# Altium integrated library bkirby.IntLib: 156 symbols
Pins are listed as number, name and electrical type; pins without a type are passive.

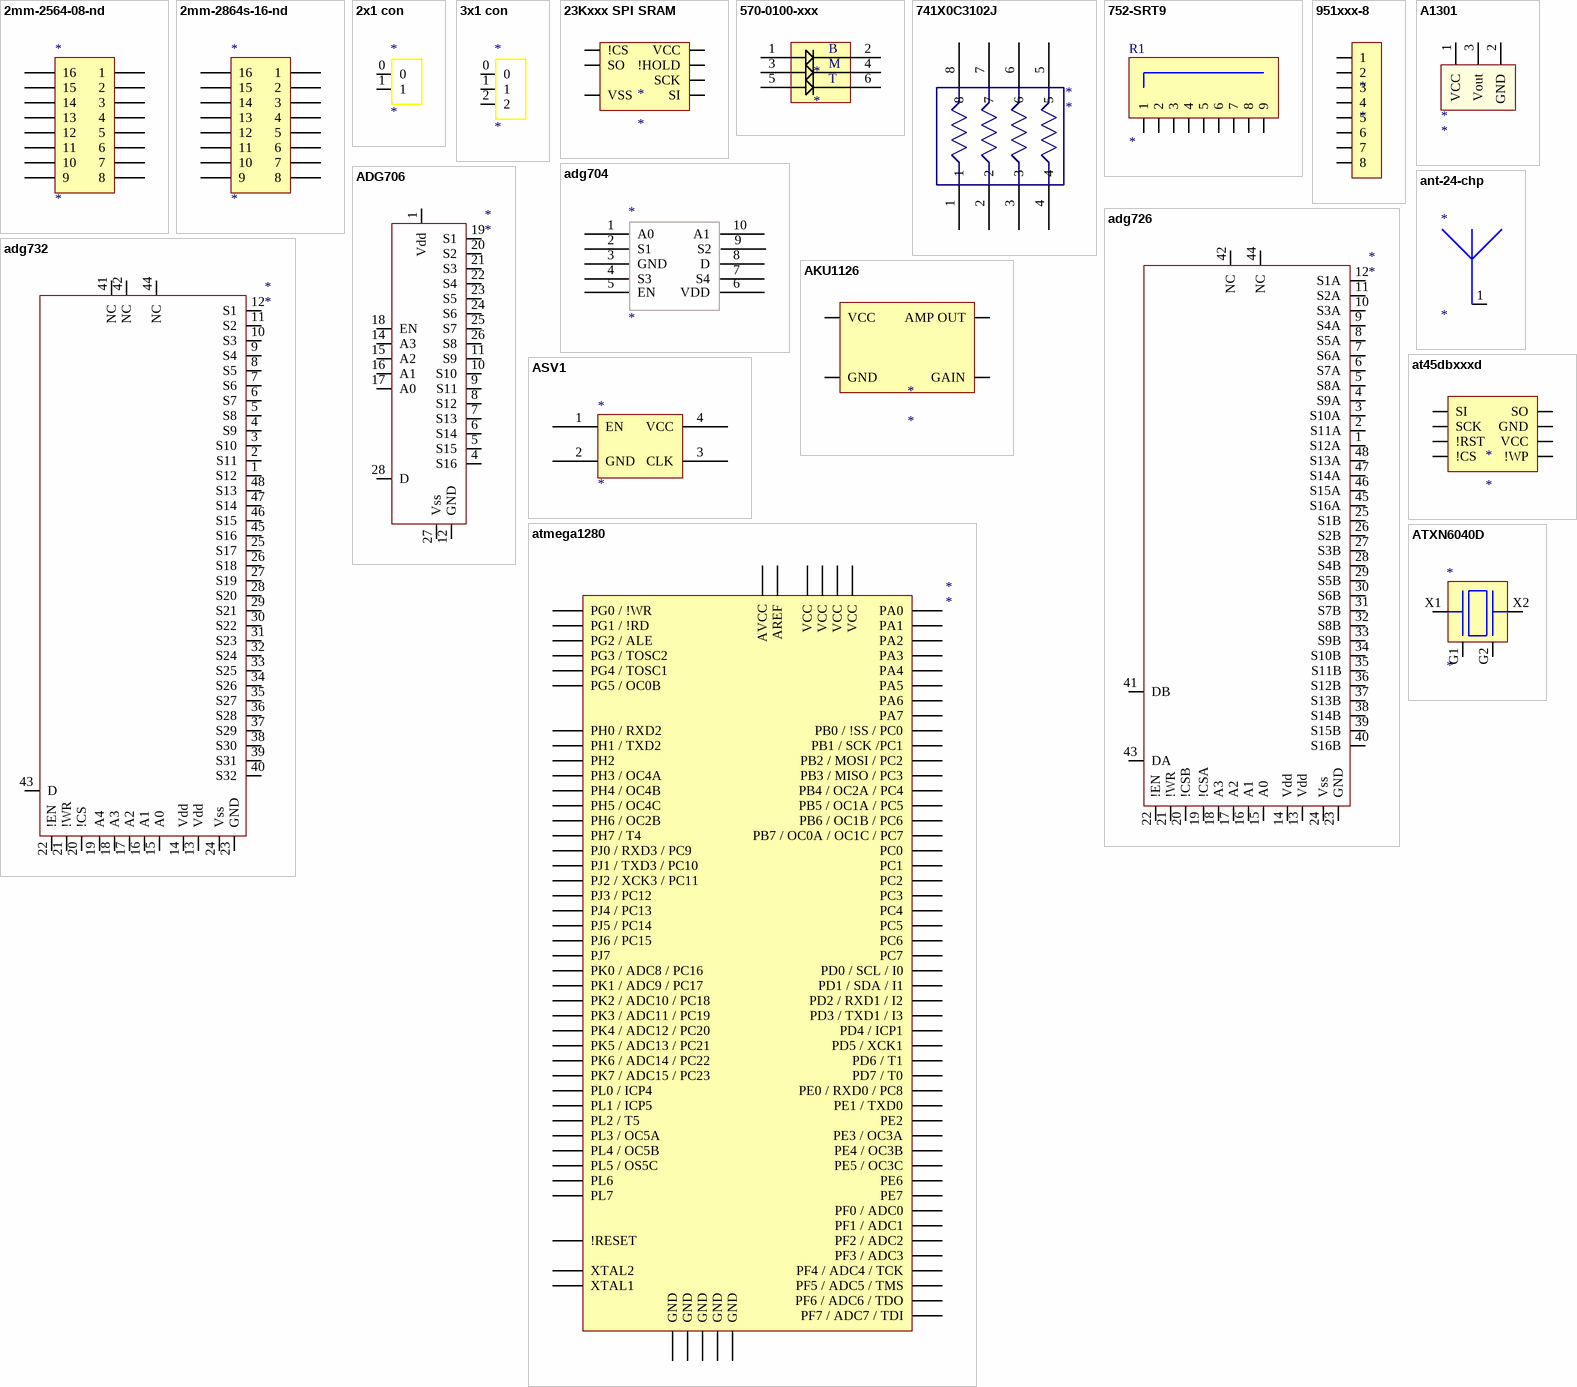
[diagram p0: symbols 2mm-2564-08-nd to ATXN6040D]

## 2mm-2564-08-nd
designator *
footprint 2mm-2564-08-nd
pins: 1, 2, 3, 4, 5, 6, 7, 8, 9, 10, 11, 12, 13, 14, 15, 16

## 2mm-2864s-16-nd
designator *
footprint 2mm-2864s-16-nd
pins: 1, 2, 3, 4, 5, 6, 7, 8, 9, 10, 11, 12, 13, 14, 15, 16

## 2x1 con
designator *
footprint 2x1header
pins: 0, 1

## 3x1 con
designator *
footprint 3x1header
pins: 0, 1, 2

## 23Kxxx SPI SRAM
designator *
footprint SO-G8/E4.1 (Small Outline; 8 Leads; Body Width 5.3 mm; Pitch 1.27 mm)
pins: 1 !CS, 2 SO, 4 VSS, 5 SI, 6 SCK, 7 !HOLD, 8 VCC

## 570-0100-xxx
designator *
footprint 570-0100-xxx (3 tier LED indicator)
pins: 1, 2, 3, 4, 5, 6
text: B; M; T

## 741X0C3102J
designator *
footprint 741C083102J
pins: 1, 2, 3, 4, 5, 6, 7, 8

## 752-SRT9
designator R1
footprint 752-SRT
pins: 1, 2, 3, 4, 5, 6, 7, 8, 9

## 951xxx-8
designator *
footprint 951xxx-8 (2mm R/A male header)
pins: 1, 2, 3, 4, 5, 6, 7, 8

## A1301
designator *
footprint A1301
pins: 1 VCC, 2 GND, 3 Vout

## adg704
designator *
footprint msop10
pins: 1 A0, 2 S1, 3 GND, 4 S3, 5 EN, 6 VDD, 7 S4, 8 D, 9 S2, 10 A1

## ADG706
designator *
footprint TSSO10x6-G28 (Shrink Small Outline; 28 Leads; Body Width 4.4 mm; Pitch 0.65 mm)
pins: 1 Vdd, 4 S16, 5 S15, 6 S14, 7 S13, 8 S12, 9 S11, 10 S10, 11 S9, 12 GND, 14 A3, 15 A2, 16 A1, 17 A0, 18 EN, 19 S1, 20 S2, 21 S3, 22 S4, 23 S5, 24 S6, 25 S7, 26 S8, 27 Vss, 28 D

## adg726
designator *
footprint F-QFP7x7-G48/X.3N (QFP; 48 Leads; Body 7 x 7 mm; Pitch 0.5 mm)
pins: 1 S12A, 2 S11A, 3 S10A, 4 S9A, 5 S8A, 6 S7A, 7 S6A, 8 S5A, 9 S4A, 10 S3A, 11 S2A, 12 S1A, 13 Vdd, 14 Vdd, 15 A0, 16 A1, 17 A2, 18 A3, 19 !CSA, 20 !CSB, 21 !WR, 22 !EN, 23 GND, 24 Vss, 25 S1B, 26 S2B, 27 S3B, 28 S4B, 29 S5B, 30 S6B, 31 S7B, 32 S8B, 33 S9B, 34 S10B, 35 S11B, 36 S12B, 37 S13B, 38 S14B, 39 S15B, 40 S16B, 41 DB, 42 NC, 43 DA, 44 NC, 45 S16A, 46 S15A, 47 S14A, 48 S13A

## adg732
designator *
footprint F-QFP7x7-G48/X.3N (QFP; 48 Leads; Body 7 x 7 mm; Pitch 0.5 mm)
pins: 1 S12, 2 S11, 3 S10, 4 S9, 5 S8, 6 S7, 7 S6, 8 S5, 9 S4, 10 S3, 11 S2, 12 S1, 13 Vdd, 14 Vdd, 15 A0, 16 A1, 17 A2, 18 A3, 19 A4, 20 !CS, 21 !WR, 22 !EN, 23 GND, 24 Vss, 25 S17, 26 S18, 27 S19, 28 S20, 29 S21, 30 S22, 31 S23, 32 S24, 33 S25, 34 S26, 35 S27, 36 S28, 37 S29, 38 S30, 39 S31, 40 S32, 41 NC, 42 NC, 43 D, 44 NC, 45 S16, 46 S15, 47 S14, 48 S13

## AKU1126
designator *
footprint aku1126
pins: 1 GAIN, 2 VCC, 3 GND, 4 AMP OUT

## ant-24-chp
designator *
footprint ant-24-chp
pins: 1 RF

## ASV1
designator *
footprint ASV1
pins: 1 EN, 2 GND, 3 CLK, 4 VCC

## at45dbxxxd
designator *
footprint SO-G8/E4.1 (Small Outline; 8 Leads; Body Width 5.3 mm; Pitch 1.27 mm)
pins: 1 SI, 2 SCK, 3 !RST, 4 !CS, 5 !WP, 6 VCC, 7 GND, 8 SO

## atmega1280
designator *
footprint F-QFP14x14-G100/X.3N (100-Pin Plastic Quad Flat Pack (TQFP))
pins: 1 PG5 / OC0B, 2 PE0 / RXD0 / PC8, 3 PE1 / TXD0, 4 PE2, 5 PE3 / OC3A, 6 PE4 / OC3B, 7 PE5 / OC3C, 8 PE6, 9 PE7, 10 VCC, 11 GND, 12 PH0 / RXD2, 13 PH1 / TXD2, 14 PH2, 15 PH3 / OC4A, 16 PH4 / OC4B, 17 PH5 / OC4C, 18 PH6 / OC2B, 19 PB0 / !SS / PC0, 20 PB1 / SCK /PC1, 21 PB2 / MOSI / PC2, 22 PB3 / MISO / PC3, 23 PB4 / OC2A / PC4, 24 PB5 / OC1A / PC5, 25 PB6 / OC1B / PC6, 26 PB7 / OC0A / OC1C / PC7, 27 PH7 / T4, 28 PG3 / TOSC2, 29 PG4 / TOSC1, 30 !RESET, 31 VCC, 32 GND, 33 XTAL2, 34 XTAL1, 35 PL0 / ICP4, 36 PL1 / ICP5, 37 PL2 / T5, 38 PL3 / OC5A, 39 PL4 / OC5B, 40 PL5 / OS5C, 41 PL6, 42 PL7, 43 PD0 / SCL / I0, 44 PD1 / SDA / I1, 45 PD2 / RXD1 / I2, 46 PD3 / TXD1 / I3, 47 PD4 / ICP1, 48 PD5 / XCK1, 49 PD6 / T1, 50 PD7 / T0, 51 PG0 / !WR, 52 PG1 / !RD, 53 PC0, 54 PC1, 55 PC2, 56 PC3, 57 PC4, 58 PC5, 59 PC6, 60 PC7, 61 VCC, 62 GND, 63 PJ0 / RXD3 / PC9, 64 PJ1 / TXD3 / PC10, 65 PJ2 / XCK3 / PC11, 66 PJ3 / PC12, 67 PJ4 / PC13, 68 PJ5 / PC14, 69 PJ6 / PC15, 70 PG2 / ALE, 71 PA7, 72 PA6, 73 PA5, 74 PA4, 75 PA3, 76 PA2, 77 PA1, 78 PA0, 79 PJ7, 80 VCC, 81 GND, 82 PK7 / ADC15 / PC23, 83 PK6 / ADC14 / PC22, 84 PK5 / ADC13 / PC21, 85 PK4 / ADC12 / PC20, 86 PK3 / ADC11 / PC19, 87 PK2 / ADC10 / PC18, 88 PK1 / ADC9 / PC17, 89 PK0 / ADC8 / PC16, 90 PF7 / ADC7 / TDI, 91 PF6 / ADC6 / TDO, 92 PF5 / ADC5 / TMS, 93 PF4 / ADC4 / TCK, 94 PF3 / ADC3, 95 PF2 / ADC2, 96 PF1 / ADC1, 97 PF0 / ADC0, 98 AREF, 99 GND, 100 AVCC

## ATXN6040D
designator *
footprint ATXN6040D
pins: G1, G2, X1, X2

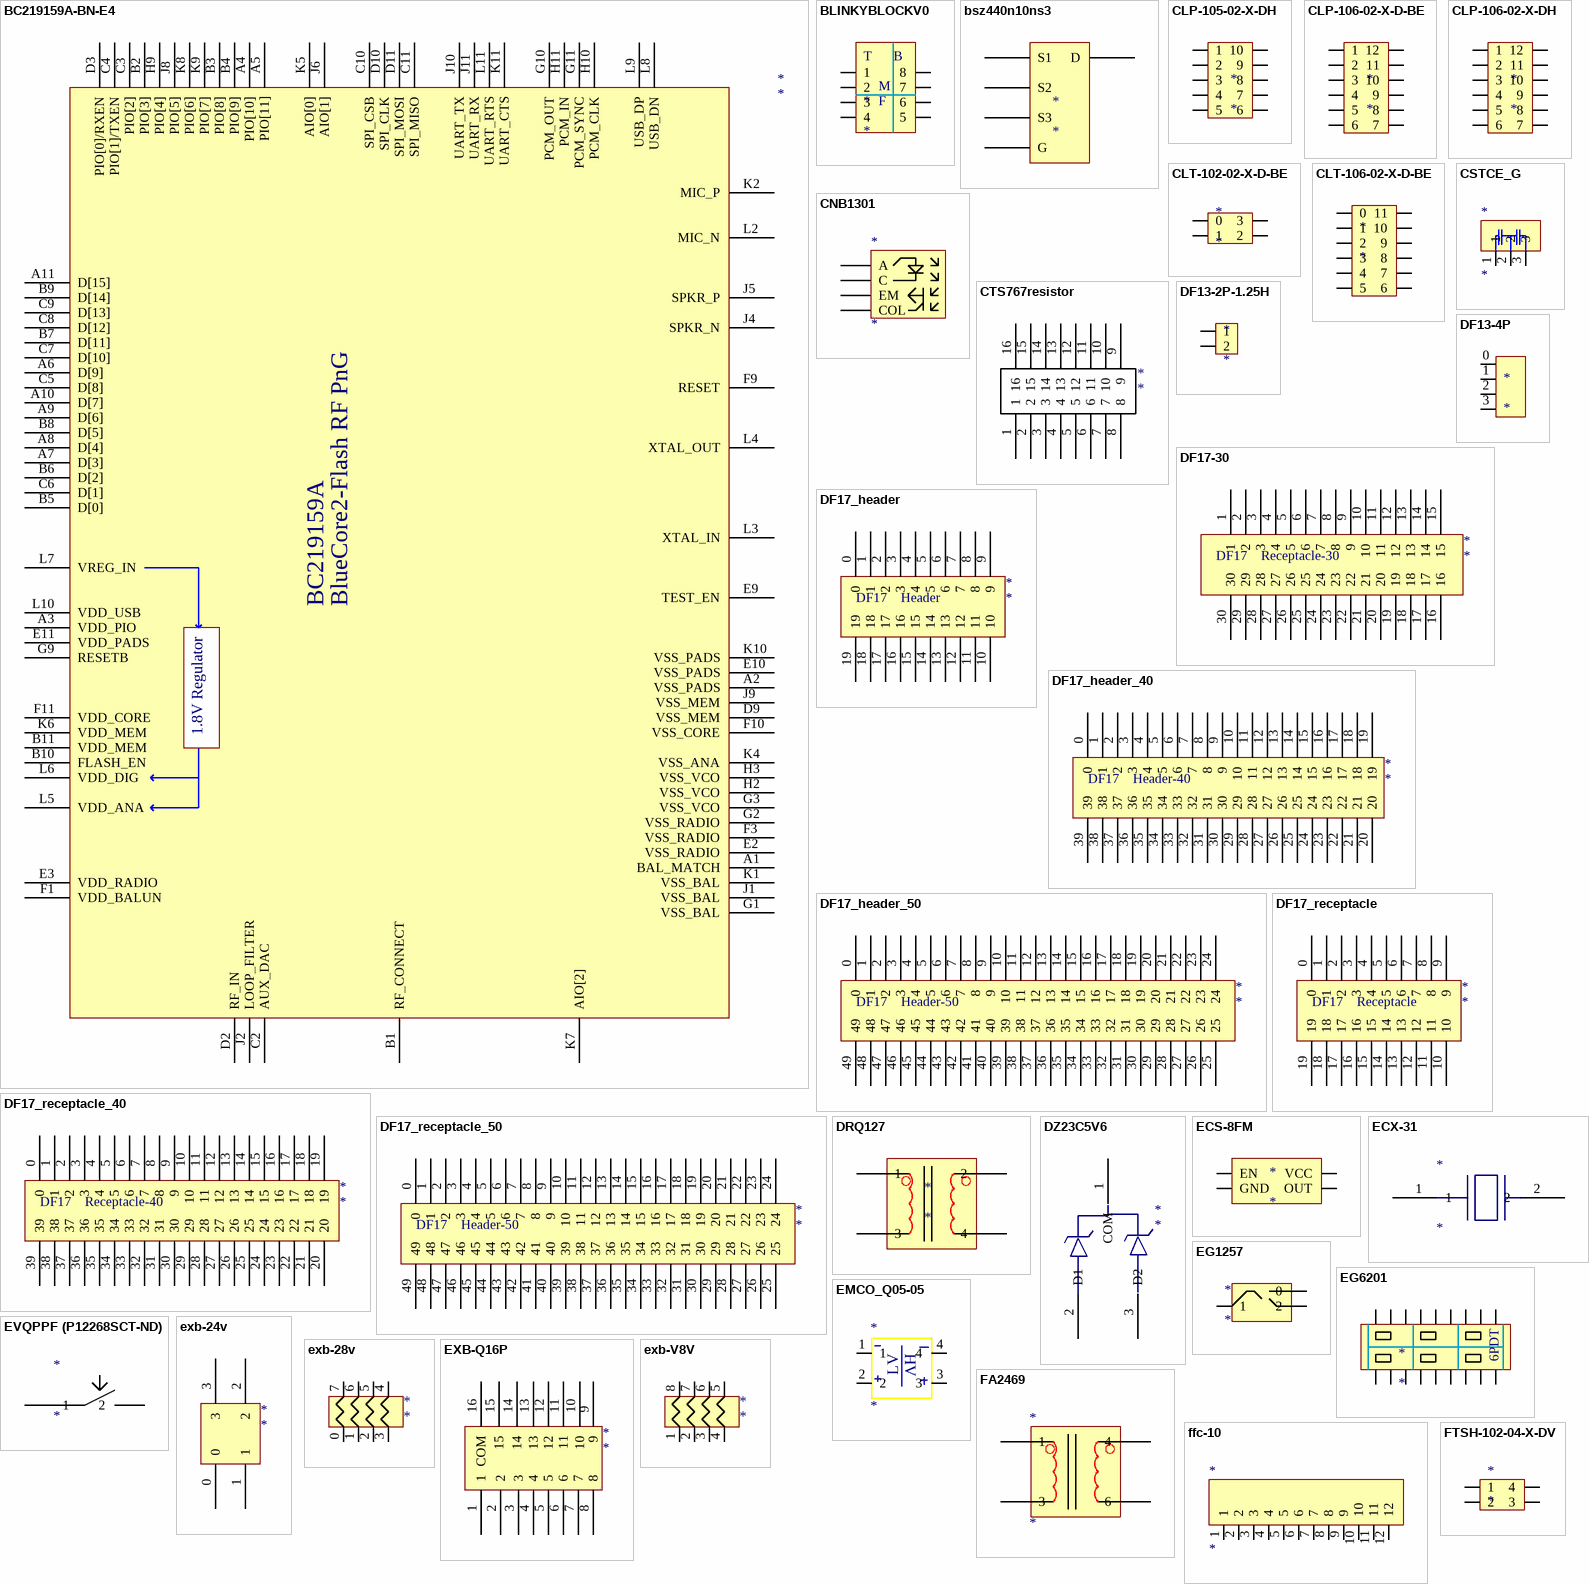
[diagram p1: symbols BC219159A-BN-E4 to FTSH-102-04-X-DV]

## BC219159A-BN-E4
designator *
footprint BGA96x11-DFM
pins: A1 BAL_MATCH, A2 VSS_PADS, A3 VDD_PIO, A4 PIO[10], A5 PIO[11], A6 D[9], A7 D[3], A8 D[4], A9 D[6], A10 D[7], A11 D[15], B1 RF_CONNECT, B2 PIO[3], B3 PIO[8], B4 PIO[9], B5 D[0], B6 D[2], B7 D[11], B8 D[5], B9 D[14], B10 FLASH_EN, B11 VDD_MEM, C2 AUX_DAC, C3 PIO[2], C4 PIO[1]/TXEN, C5 D[8], C6 D[1], C7 D[10], C8 D[12], C9 D[13], C10 SPI_CSB, C11 SPI_MISO, D2 RF_IN, D3 PIO[0]/RXEN, D9 VSS_MEM, D10 SPI_CLK, D11 SPI_MOSI, E2 VSS_RADIO, E3 VDD_RADIO, E9 TEST_EN, E10 VSS_PADS, E11 VDD_PADS, F1 VDD_BALUN, F3 VSS_RADIO, F9 RESET, F10 VSS_CORE, F11 VDD_CORE, G1 VSS_BAL, G2 VSS_RADIO, G3 VSS_VCO, G9 RESETB, G10 PCM_OUT, G11 PCM_SYNC, H2 VSS_VCO, H3 VSS_VCO, H9 PIO[4], H10 PCM_CLK, H11 PCM_IN, J1 VSS_BAL, J2 LOOP_FILTER, J4 SPKR_N, J5 SPKR_P, J6 AIO[1], J8 PIO[5], J9 VSS_MEM, J10 UART_TX, J11 UART_RX, K1 VSS_BAL, K2 MIC_P, K4 VSS_ANA, K5 AIO[0], K6 VDD_MEM, K7 AIO[2], K8 PIO[6], K9 PIO[7], K10 VSS_PADS, K11 UART_CTS, L2 MIC_N, L3 XTAL_IN, L4 XTAL_OUT, L5 VDD_ANA, L6 VDD_DIG, L7 VREG_IN, L8 USB_DN, L9 USB_DP, L10 VDD_USB, L11 UART_RTS
text: BC219159A; BlueCore2-Flash RF PnG; 1.8V Regulator

## BLINKYBLOCKV0
designator *
footprint BLINKYBLOCKV0
pins: 1, 2, 3, 4, 5, 6, 7, 8
text: T; B; M; F

## bsz440n10ns3
designator *
footprint BSZ440N10NS3
pins: DRAIN D, G, S1, S2, S3

## CLP-105-02-X-DH
designator *
footprint CLP-105-02-X-DH
pins: 1, 2, 3, 4, 5, 6, 7, 8, 9, 10

## CLP-106-02-X-D-BE
designator *
footprint CLP-106-02-X-D-BE
pins: 1, 2, 3, 4, 5, 6, 7, 8, 9, 10, 11, 12

## CLP-106-02-X-DH
designator *
footprint CLP-106-02-X-DH
pins: 1, 2, 3, 4, 5, 6, 7, 8, 9, 10, 11, 12

## CLT-102-02-X-D-BE
designator *
footprint CLT-102-02-X-D-BE
pins: 0, 1, 2, 3

## CLT-106-02-X-D-BE
designator *
footprint CLT-106-02-X-D-BE
pins: 0, 1, 2, 3, 4, 5, 6, 7, 8, 9, 10, 11

## CNB1301
designator *
footprint CNB1301
pins: 1 A, 2 C, 3 EM, 4 COL

## CSTCE_G
designator *
footprint CSTCE_G
pins: 1, 2, 3

## CTS767resistor
designator *
footprint CTS_767_resistor
pins: 1, 2, 3, 4, 5, 6, 7, 8, 9, 10, 11, 12, 13, 14, 15, 16

## DF13-2P-1.25H
designator *
footprint DF13-2P-1.25H(20)
pins: 1, 2

## DF13-4P
designator *
footprint DF13-4P
pins: 0, 1, 2, 3

## DF17-30
designator *
footprint DF17-30
pins: 1, 2, 3, 4, 5, 6, 7, 8, 9, 10, 11, 12, 13, 14, 15, 16, 17, 18, 19, 20, 21, 22, 23, 24, 25, 26, 27, 28, 29, 30
text: DF17; Receptacle-30

## DF17_header
designator *
footprint DF17_header
pins: 0, 1, 2, 3, 4, 5, 6, 7, 8, 9, 10, 11, 12, 13, 14, 15, 16, 17, 18, 19
text: DF17; Header

## DF17_header_40
designator *
footprint DF17_header-40
pins: 0, 1, 2, 3, 4, 5, 6, 7, 8, 9, 10, 11, 12, 13, 14, 15, 16, 17, 18, 19, 20, 21, 22, 23, 24, 25, 26, 27, 28, 29, 30, 31, 32, 33, 34, 35, 36, 37, 38, 39
text: DF17; Header-40

## DF17_header_50
designator *
footprint DF17_receptacle-50
pins: 0, 1, 2, 3, 4, 5, 6, 7, 8, 9, 10, 11, 12, 13, 14, 15, 16, 17, 18, 19, 20, 21, 22, 23, 24, 25, 26, 27, 28, 29, 30, 31, 32, 33, 34, 35, 36, 37, 38, 39, 40, 41, 42, 43, 44, 45, 46, 47, 48, 49
text: DF17; Header-50

## DF17_receptacle
designator *
footprint DF17_receptacle
pins: 0, 1, 2, 3, 4, 5, 6, 7, 8, 9, 10, 11, 12, 13, 14, 15, 16, 17, 18, 19
text: DF17; Receptacle

## DF17_receptacle_40
designator *
footprint DF17_receptacle-40
pins: 0, 1, 2, 3, 4, 5, 6, 7, 8, 9, 10, 11, 12, 13, 14, 15, 16, 17, 18, 19, 20, 21, 22, 23, 24, 25, 26, 27, 28, 29, 30, 31, 32, 33, 34, 35, 36, 37, 38, 39
text: DF17; Receptacle-40

## DF17_receptacle_50
designator *
footprint DF17_receptacle-50
pins: 0, 1, 2, 3, 4, 5, 6, 7, 8, 9, 10, 11, 12, 13, 14, 15, 16, 17, 18, 19, 20, 21, 22, 23, 24, 25, 26, 27, 28, 29, 30, 31, 32, 33, 34, 35, 36, 37, 38, 39, 40, 41, 42, 43, 44, 45, 46, 47, 48, 49
text: DF17; Header-50

## DRQ127
designator *
footprint DRQ127 (coupled inductor)
pins: 1, 2, 3, 4

## DZ23C5V6
designator *
footprint SO-G3/D4.1 (SOT-23; 3 Leads; Body 3.0 x 2.5 mm, inc. leads (LxW max), Alternate Lead Configuration)
pins: 1 COM, 2 D1, 3 D2

## ECS-8FM
designator *
footprint ECS-8F
pins: 1 EN, 2 GND, 3 OUT, 4 VCC

## ECX-31
designator *
footprint ECX-31
pins: 1, 2

## EG1257
designator *
footprint EG1257
pins: 0, 1, 2

## EG6201
designator *
footprint EG6201
pins: 1, 2, 3, 4, 5, 6, 7, 8, 9, 10, 11, 12, 13, 14, 15, 16, 17, 18
text: 6PDT

## EMCO_Q05-05
designator *
footprint EMCO_HV
pins: 1, 2, 3, 4
text: HV; LV

## EVQPPF (P12268SCT-ND)
designator *
footprint EVQPPF
pins: 1, 2

## exb-24v
designator *
footprint exb-24v
pins: 0, 1, 2, 3

## exb-28v
designator *
footprint exb-28v
pins: 0, 1, 2, 3, 4, 5, 6, 7

## EXB-Q16P
designator *
footprint EXB-Q16P
pins: 1, 2, 3, 4, 5, 6, 7, 8, 9, 10, 11, 12, 13, 14, 15, 16 COM

## exb-V8V
designator *
footprint EXB-V8V
pins: 1, 2, 3, 4, 5, 6, 7, 8

## FA2469
designator *
footprint FA2469
pins: 1, 3, 4, 6

## ffc-10
designator *
footprint FFC-10
pins: 1, 2, 3, 4, 5, 6, 7, 8, 9, 10, 11, 12

## FTSH-102-04-X-DV
designator *
footprint FTSH-102-04-X-DV
pins: 1, 2, 3, 4

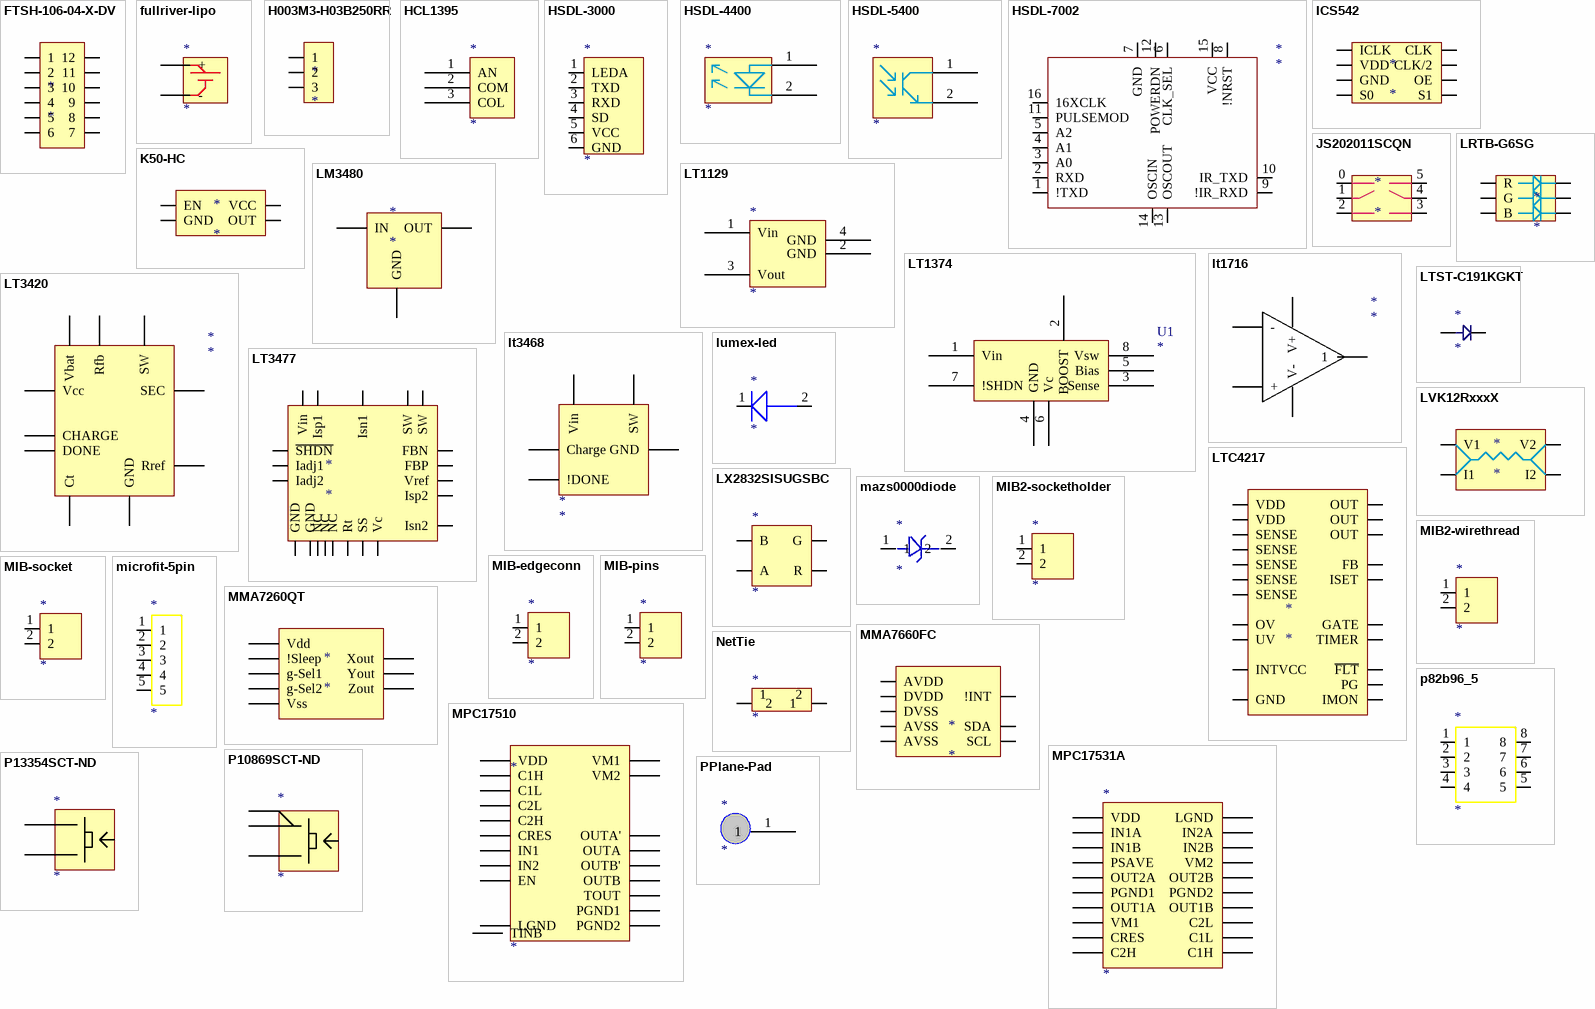
[diagram p2: symbols FTSH-106-04-X-DV to PPlane-Pad]

## FTSH-106-04-X-DV
designator *
footprint FTSH-106-04-X-DV
pins: 1, 2, 3, 4, 5, 6, 7, 8, 9, 10, 11, 12

## fullriver-lipo
designator *
footprint fullriver-lipo
pins: 1 -, 2 +

## H003M3-H03B250RR
designator *
footprint H003M3-H03B250RR
pins: 1, 2, 3

## HCL1395
designator *
footprint A1301
pins: 1 AN, 2 COM, 3 COL

## HSDL-3000
designator *
footprint HSDL-3000
pins: 1 LEDA, 2 TXD, 3 RXD, 4 SD, 5 VCC, 6 GND

## HSDL-4400
designator *
footprint HSDL-4400
pins: 1 ANODE, 2 CATHODE

## HSDL-5400
designator *
footprint HSDL-5400
pins: 1, 2

## HSDL-7002
designator *
footprint QFN4X4-16 (Quad Flat No Lead, Plastic; 16 Terminals; Body 4 x 4 mm; Pitch 0.65 mm)
pins: 1 !TXD, 2 RXD, 3 A0, 4 A1, 5 A2, 6 CLK_SEL, 7 GND, 8 !NRST, 9 !IR_RXD, 10 IR_TXD, 11 PULSEMOD, 12 POWERDN, 13 OSCOUT, 14 OSCIN, 15 VCC, 16 16XCLK

## ICS542
designator *
footprint SO-G8 (Small Outline; 8 Leads; Body Width 3.9 mm; Pitch 1.27 mm)
pins: 1 ICLK, 2 VDD, 3 GND, 4 S0, 5 S1, 6 OE, 7 CLK/2, 8 CLK

## JS202011SCQN
designator *
footprint JS202011SCQN
pins: 0, 1, 2, 3, 4, 5

## K50-HC
designator *
footprint K50-HC
pins: 1 EN, 2 GND, 3 OUT, 4 VCC

## LM3480
designator *
footprint SO-G3/C2.25 (SOT-23; 3 Leads; Body 3.0 x 2.5 mm, inc. leads (LxW max))
pins: 1 OUT, 2 IN, 3 GND

## LRTB-G6SG
designator *
footprint LRTB-G6SG
pins: A1 R, A2 G, A3 B, C1, C2, C3

## LT1129
designator *
footprint SOT223-4L (SOT223/SC73, 4-Leads, Body 6.5x3.5mm, Pitch 2.3mm, Lead Span 7mm, IPC High Density)
pins: 1 Vin, 2 GND, 3 Vout, 4 GND

## LT1374
designator U1
footprint SOP8
pins: 1 Vin, 2 BOOST, 3 Sense, 4 GND, 5 Bias, 6 Vc, 7 !SHDN, 8 Vsw

## lt1716
designator *
footprint SO-G5/P.95 (SOT-23/SC-74A; 5 Leads; Body 3.1 x 3 mm, inc. leads (LxW max))
pins: 1, 2 V-, 3 +, 4 -, 5 V+

## LT3420
designator *
footprint msop10
pins: 1 Rref, 2 Vbat, 3 Rfb, 4 Vcc, 5 GND, 6 SW, 7 SEC, 8 DONE, 9 CHARGE, 10 Ct

## lt3468
designator *
footprint SO-G5/P.95 (SOT-23/SC-74A; 5 Leads; Body 3.1 x 3 mm, inc. leads (LxW max))
pins: 1 SW, 2 GND, 3 !DONE, 4 Charge, 5 Vin

## LT3477
designator *
footprint QFN20
pins: 1 NC, 2 NC, 3 Vin, 4 Rt, 5 ~{SHDN}, 6 SS, 7 Vc, 8 FBN, 9 FBP, 10 Vref, 11 Iadj2, 12 Iadj1, 13 Isp2, 14 Isn2, 15 Isp1, 16 Isn1, 17 GND, 18 SW, 19 SW, 20 NC, 21 GND

## LTC4217
designator *
footprint LTC4217
pins: 1 SENSE, 2 VDD, 3 UV, 4 OV, 5 TIMER, 6 INTVCC, 7 GND, 8 OUT, 9 OUT, 10 SENSE, 11 SENSE, 12 OUT, 13 GATE, 14 PG, 15 ~{FLT}, 16 FB, 17 IMON, 18 ISET, 19 VDD, 20 SENSE, PAD SENSE

## LTST-C191KGKT
designator *
footprint LTST-C191KGKT
pins: 1, 2

## lumex-led
designator *
pins: 1, 2

## LVK12RxxxX
designator *
footprint LVK12RxxxX (kelven sense resistor 1206 WIDE)
pins: I1, I2, V1, V2

## LX2832SISUGSBC
designator *
footprint LX2832SISUGSBC
pins: 1 R, 2 A, 3 B, 4 G

## mazs0000diode
designator *
footprint SS-mini 2p
pins: 1, 2

## MIB2-socketholder
designator *
footprint MD-MIB2-socketholder
pins: 1, 2

## MIB2-wirethread
designator *
footprint MD-MIB2-wirethread
pins: 1, 2

## MIB-edgeconn
designator *
footprint 2mm-RA
pins: 1, 2

## MIB-pins
designator *
footprint MD-MIB-PIN
pins: 1, 2

## MIB-socket
designator *
footprint MD-MIB-socket
pins: 1, 2

## microfit-5pin
designator *
footprint microfit-5RA (right angle with retention)
pins: 1, 2, 3, 4, 5

## MMA7260QT
designator *
footprint MMA7260QT
pins: 1 g-Sel1, 2 g-Sel2, 3 Vdd, 4 Vss, 12 !Sleep, 13 Zout, 14 Yout, 15 Xout

## MMA7660FC
designator *
footprint QFN50P300X300X100-10N (QFN, 10-Leads, Body 3.0x3.0mm (max), Pitch 0.50mm, IPC Medium Density)
pins: 1 AVSS, 3 AVDD, 4 AVSS, 5 !INT, 6 SCL, 7 SDA, 8 DVSS, 9 DVDD

## MPC17510
designator *
footprint MPC17510
pins: 1 OUTA, 2 LGND, 3 CRES, 5 OUTA', 6 PGND1, 8 VM2, 9 IN1, 10 IN2, 11 C1H, 12 C1L, 13 C2L, 14 C2H, 15 TOUT, 16 EN, 17 OUTB', 18 OUTB, 19 PGND2, 21 VM1, 23 VDD, 24 TINB

## MPC17531A
designator *
footprint MPC17531A
pins: 1 VDD, 2 IN1A, 3 IN1B, 4 PSAVE, 5 OUT2A, 6 PGND1, 7 OUT1A, 8 VM1, 9 CRES, 10 C2H, 11 C1H, 12 C1L, 13 C2L, 14 OUT1B, 15 PGND2, 16 OUT2B, 17 VM2, 18 IN2B, 19 IN2A, 20 LGND

## NetTie
designator *  (net tie, no BOM)
footprint NetTie
pins: 1, 2

## p82b96_5
designator *
footprint SOP8
pins: 1, 2, 3, 4, 5, 6, 7, 8

## P10869SCT-ND
designator *
footprint P10869SCT-ND
pins: 1, C1 COM, C2 COM

## P13354SCT-ND
designator *
footprint p11151sct-nd
pins: C COM, D

## PPlane-Pad
designator *
footprint PPlane-Pad
pins: 1

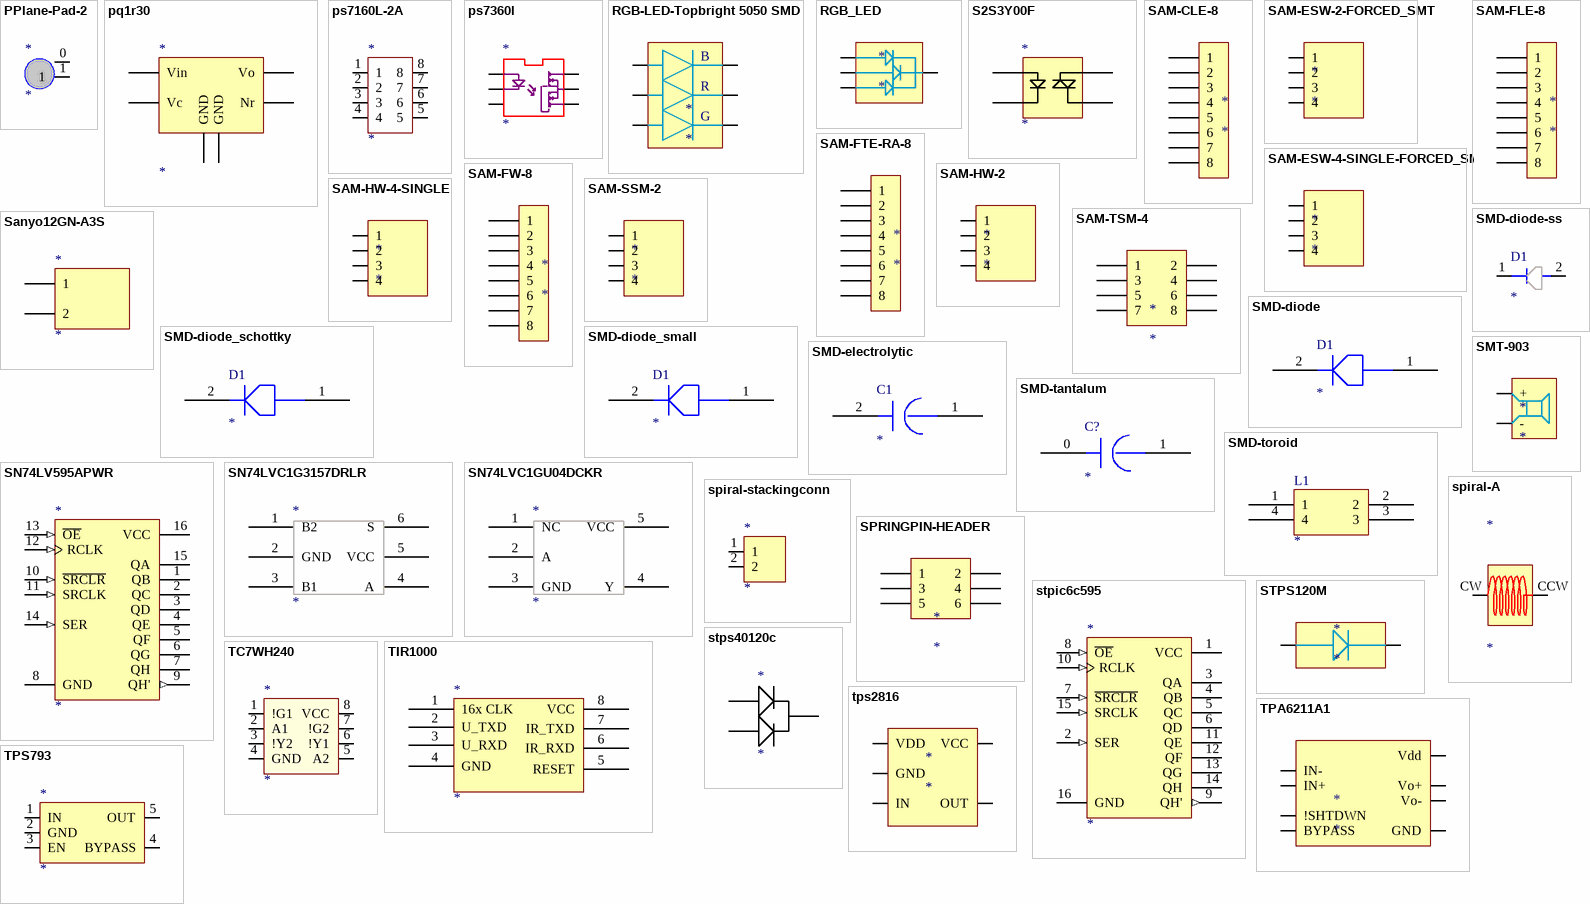
[diagram p3: symbols PPlane-Pad-2 to tps2816]

## PPlane-Pad-2
designator *
footprint PPlane-Pad
pins: 0, 1

## pq1r30
designator *
footprint SO-G6/E2.4 (Small Outline; 6 Leads; Body 3.6 x 3.6 mm, inc. leads (LxW max))
pins: 1 Vc, 2 GND, 3 Nr, 4 Vo, 5 GND, 6 Vin

## ps7160L-2A
designator *
footprint DIP-8 (DIP; 8 Leads; Row Spacing 7.62 mm; Pitch 2.54 mm)
pins: 1, 2, 3, 4, 5, 6, 7, 8

## ps7360l
designator *
footprint Dip-SOIC6
pins: 1, 2, 3, 4, 5, 6

## RGB-LED-Topbright 5050 SMD
designator *
footprint PLCC-6
pins: 1, 2, 3, 4, 5, 6
text: B; R; G

## RGB_LED
designator *
footprint RGB_LED
pins: 1, 2, 3, 4

## S2S3Y00F
designator *
footprint S2S3Y00F
pins: 1 A, 2 K, 3 MT1, 4 MT2

## SAM-CLE-8
designator *
footprint SAM-CLE-8
pins: 1, 2, 3, 4, 5, 6, 7, 8

## SAM-ESW-2-FORCED_SMT
designator *
footprint SAM-ESW-2-FORCED_SMT
pins: 1, 2, 3, 4

## SAM-ESW-4-SINGLE-FORCED_SMT
designator *
footprint SAM-ESW-4-SINGLE-FORCED_SMT
pins: 1, 2, 3, 4

## SAM-FLE-8
designator *
footprint SAM-FLE-8
pins: 1, 2, 3, 4, 5, 6, 7, 8

## SAM-FTE-RA-8
designator *
footprint SAM-FTE-RA-8
pins: 1, 2, 3, 4, 5, 6, 7, 8

## SAM-FW-8
designator *
footprint SAM-FW-8
pins: 1, 2, 3, 4, 5, 6, 7, 8

## SAM-HW-2
designator *
footprint SAM-HW-2
pins: 1, 2, 3, 4

## SAM-HW-4-SINGLE
designator *
footprint SAM-HW-4-Single
pins: 1, 2, 3, 4

## SAM-SSM-2
designator *
footprint SAM-SSM-2
pins: 1, 2, 3, 4

## SAM-TSM-4
designator *
footprint SAM-TSM-4
pins: 1, 2, 3, 4, 5, 6, 7, 8

## Sanyo12GN-A3S
designator *
footprint Sanyo12GN-A3S
pins: 1, 2

## SMD-diode
designator D1
footprint SMD-Diode
pins: 1, 2

## SMD-diode-ss
designator D1
footprint DSO-F2/D4.4 (SMT LED; 2 Flat Leads)
pins: 1, 2

## SMD-diode_schottky
designator D1
footprint SMA
pins: 1, 2

## SMD-diode_small
designator D1
footprint SMB
pins: 1, 2

## SMD-electrolytic
designator C1
footprint SMD-electrolytic
pins: 1, 2

## SMD-tantalum
designator C?
footprint SMD-tantalum
pins: 0, 1

## SMD-toroid
designator L1
footprint SMD-Toroid
pins: 1, 2, 3, 4

## SMT-903
designator *
footprint SMT-903
pins: 1 +, 2 -

## SN74LV595APWR
designator *
footprint TSSO5x6-G16 (Shrink Small Outline; 16 Leads; Body Width 4.4 mm; Pitch 0.65 mm)
pins: 1 QB (hiz), 2 QC (hiz), 3 QD (hiz), 4 QE (hiz), 5 QF (hiz), 6 QG (hiz), 7 QH (hiz), 8 GND (power), 9 QH' (out), 10 ~{SRCLR} (in), 11 SRCLK (in), 12 RCLK (in), 13 ~{OE} (in), 14 SER (in), 15 QA (hiz), 16 VCC (power)

## SN74LVC1G3157DRLR
designator *
footprint R-PDSO-N6
pins: 1 B2, 2 GND, 3 B1, 4 A, 5 VCC, 6 S

## SN74LVC1GU04DCKR
designator *
footprint SO-G5/P.65 (SOT-353/SC-88A; 5 Leads; Body 2.1 x 2.4 mm, inc. leads (LxW max))
pins: 1 NC, 2 A, 3 GND, 4 Y, 5 VCC

## spiral-A
designator *
footprint spiral_A6layer
pins: CCW, CW

## spiral-stackingconn
designator *
footprint spiral-stackingconn
pins: 1, 2

## SPRINGPIN-HEADER
designator *
footprint SPRINGPIN-ISP
pins: 1, 2, 3, 4, 5, 6

## stpic6c595
designator *
footprint TSSO5x6-G16 (Shrink Small Outline; 16 Leads; Body Width 4.4 mm; Pitch 0.65 mm)
pins: 1 VCC (power), 2 SER (in), 3 QA (hiz), 4 QB (hiz), 5 QC (hiz), 6 QD (hiz), 7 ~{SRCLR} (in), 8 ~{OE} (in), 9 QH' (out), 10 RCLK (in), 11 QE (hiz), 12 QF (hiz), 13 QG (hiz), 14 QH (hiz), 15 SRCLK (in), 16 GND (power)

## STPS120M
designator *
footprint DO216-AA
pins: 1 C, 2 A

## stps40120c
designator *
footprint SIP-P3/E10.4 (SIP; 3 Leads; Body 16 x 10.2 x 4.5 mm (typ); Pitch 2.54 mm)
pins: 1 A1, 2 K, 3 A2

## TC7WH240
designator *
footprint SSOP8
pins: 1 !G1, 2 A1, 3 !Y2, 4 GND, 5 A2, 6 !Y1, 7 !G2, 8 VCC

## TIR1000
designator *
footprint TSSO3x6-G8/Z7.1 (Shrink Small Outline; 8 Leads; Body Width 4.4 mm; Pitch 0.65 mm)
pins: 1 16x CLK, 2 U_TXD, 3 U_RXD, 4 GND, 5 RESET, 6 IR_RXD, 7 IR_TXD, 8 VCC

## TPA6211A1
designator *
footprint TPA6211A1 (QFN, 12-Leads, Body 3.2x3.2mm (max), Pitch 0.65mm, IPC Medium Density)
pins: 1 !SHTDWN, 2 BYPASS, 3 IN+, 4 IN-, 5 Vo+, 6 Vdd, 7 GND, 8 Vo-

## TPS793
designator *
pins: 1 IN, 2 GND, 3 EN, 4 BYPASS, 5 OUT

## tps2816
designator *
footprint SO-G5/P.95 (SOT-23/SC-74A; 5 Leads; Body 3.1 x 3 mm, inc. leads (LxW max))
pins: 1 VDD, 2 GND, 3 IN, 4 VCC, 5 OUT

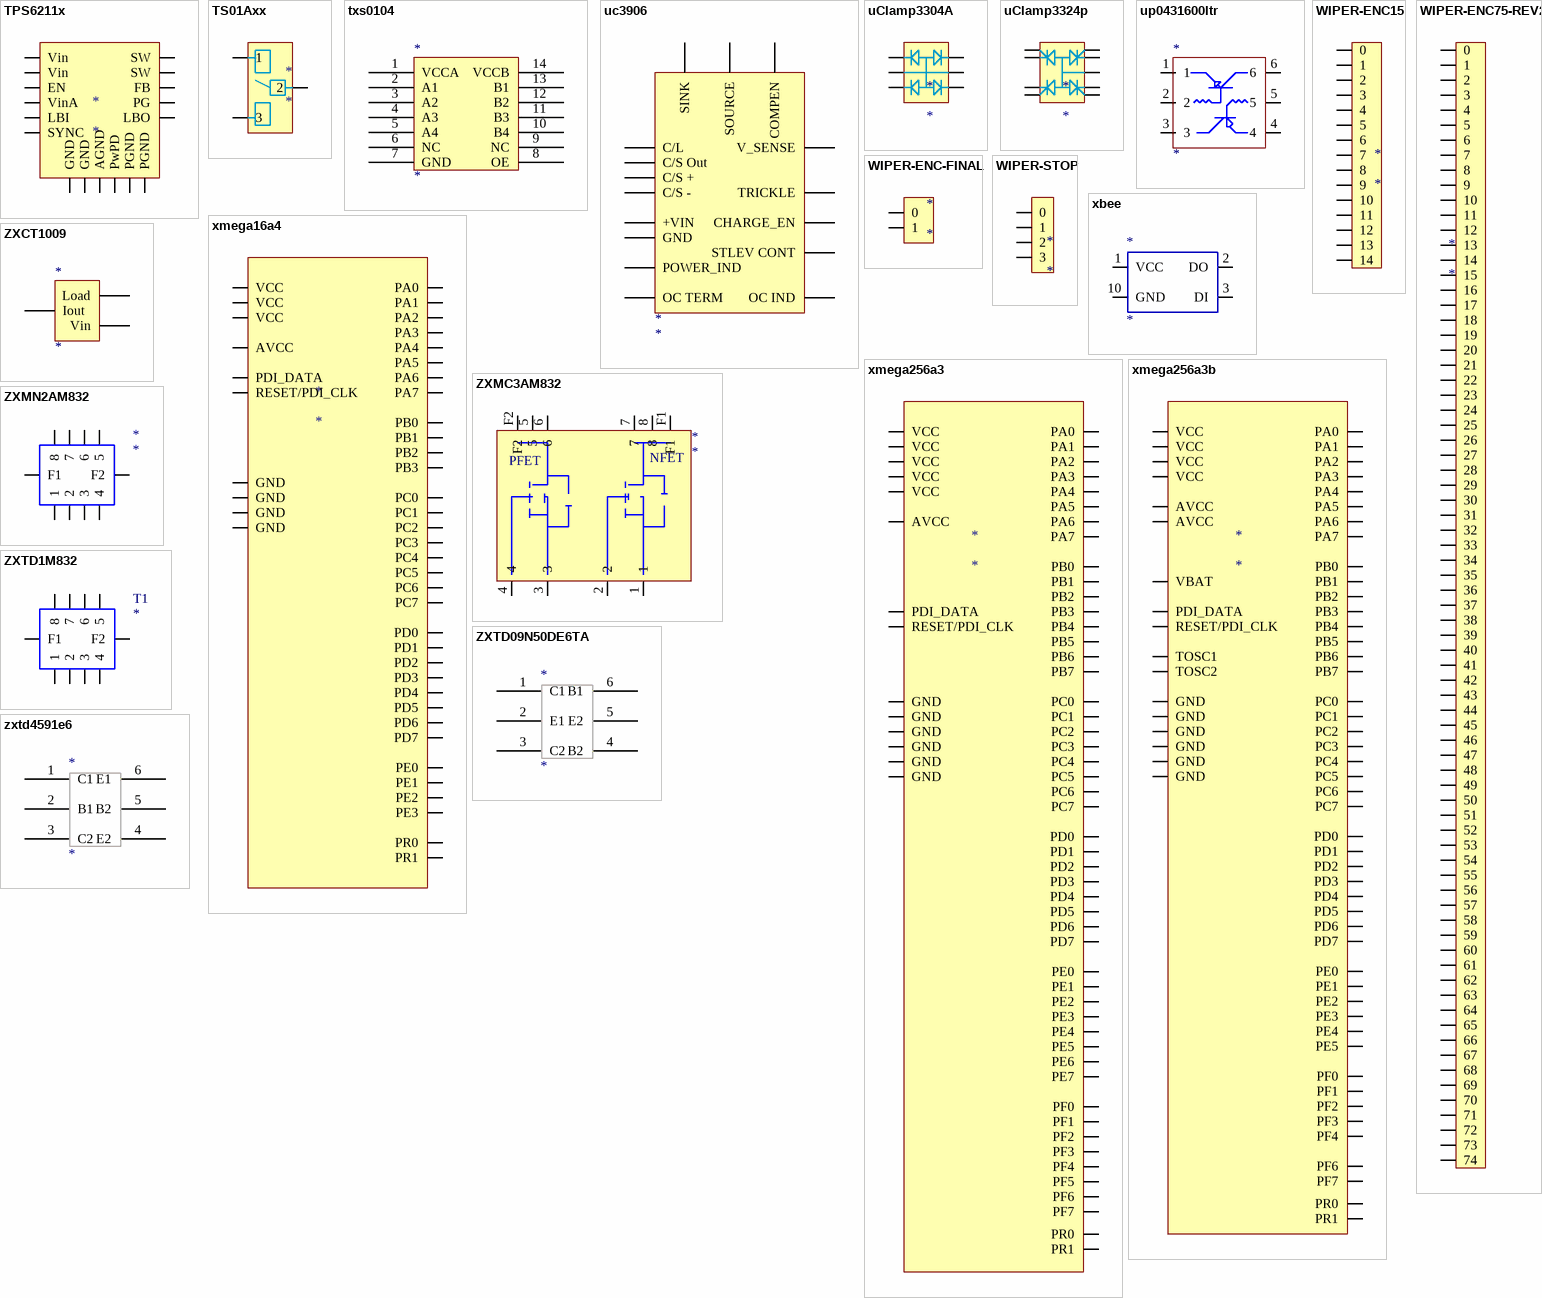
[diagram p4: symbols TPS6211x to zxtd4591e6]

## TPS6211x
designator *
footprint QFN65P400X400X80-16N (QFN, 16-Leads, Body 4.2x4.2mm (max), Pitch 0.65mm, IPC Medium Density)
pins: 1 PGND, 2 Vin, 3 Vin, 4 EN, 5 SYNC, 6 LBO, 7 LBI, 8 VinA, 9 AGND, 10 FB, 11 GND, 12 GND, 13 PG, 14 SW, 15 SW, 16 PGND, PAD PwPD

## TS01Axx
designator *
footprint TS01Axx
pins: 1, 2, 3

## txs0104
designator *
footprint SOIC127P600-14AL (SOIC, 14-Leads, Body 8.6x3.9mm, Pitch 1.27mm, IPC High Density)
pins: 1 VCCA, 2 A1, 3 A2, 4 A3, 5 A4, 6 NC, 7 GND, 8 OE, 9 NC, 10 B4, 11 B3, 12 B2, 13 B1, 14 VCCB

## uc3906
designator *
footprint DIP-16 (DIP; 16 Leads; Row Spacing 7.62 mm; Pitch 2.54 mm)
pins: 1 C/S Out, 2 C/S -, 3 C/S +, 4 C/L, 5 +VIN, 6 GND, 7 POWER_IND, 8 OC TERM, 9 OC IND, 10 STLEV CONT, 11 TRICKLE, 12 CHARGE_EN, 13 V_SENSE, 14 COMPEN, 15 SOURCE, 16 SINK

## uClamp3304A
designator *
footprint uClamp3304A
pins: 1, 2, 3, 4, 5, 6

## uClamp3324p
designator *
footprint uclamp3324p
pins: 1, 2, 3, 4, 5, 6, 7, 8, 9

## up0431600ltr
designator *
footprint SS-mini6
pins: 1, 2, 3, 4, 5, 6

## WIPER-ENC15
designator *
footprint WIPER-ENC15
pins: 0, 1, 2, 3, 4, 5, 6, 7, 8, 9, 10, 11, 12, 13, 14

## WIPER-ENC75-REV2
designator *
footprint WIPER-ENC75-REV2
pins: 0, 1, 2, 3, 4, 5, 6, 7, 8, 9, 10, 11, 12, 13, 14, 15, 16, 17, 18, 19, 20, 21, 22, 23, 24, 25, 26, 27, 28, 29, 30, 31, 32, 33, 34, 35, 36, 37, 38, 39, 40, 41, 42, 43, 44, 45, 46, 47, 48, 49, 50, 51, 52, 53, 54, 55, 56, 57, 58, 59, 60, 61, 62, 63, 64, 65, 66, 67, 68, 69, 70, 71, 72, 73, 74

## WIPER-ENC-FINAL
designator *
footprint WIPER-ENC-FINAl
pins: 0, 1

## WIPER-STOP
designator *
footprint WIPER-STOP
pins: 0, 1, 2, 3

## xbee
designator *
footprint Xbee
footprint Xbee - reduced pinout
pins: 1 VCC, 2 DO, 3 DI, 10 GND

## xmega16a4
designator *
footprint QFN50P700X700X100-44N (QFN, 44-Leads, Body 7.1x7.1mm (max), Pitch 0.50mm, IPC Medium Density)
pins: 1 PA5, 2 PA6, 3 PA7, 4 PB0, 5 PB1, 6 PB2, 7 PB3, 8 GND, 9 VCC, 10 PC0, 11 PC1, 12 PC2, 13 PC3, 14 PC4, 15 PC5, 16 PC6, 17 PC7, 18 GND, 19 VCC, 20 PD0, 21 PD1, 22 PD2, 23 PD3, 24 PD4, 25 PD5, 26 PD6, 27 PD7, 28 PE0, 29 PE1, 30 GND, 31 VCC, 32 PE2, 33 PE3, 34 PDI_DATA, 35 RESET/PDI_CLK, 36 PR0, 37 PR1, 38 GND, 39 AVCC, 40 PA0, 41 PA1, 42 PA2, 43 PA3, 44 PA4

## xmega256a3
designator *
footprint QFN127P600-8N
pins: 1 PA3, 2 PA4, 3 PA5, 4 PA6, 5 PA7, 6 PB0, 7 PB1, 8 PB2, 9 PB3, 10 PB4, 11 PB5, 12 PB6, 13 PB7, 14 GND, 15 VCC, 16 PC0, 17 PC1, 18 PC2, 19 PC3, 20 PC4, 21 PC5, 22 PC6, 23 PC7, 24 GND, 25 VCC, 26 PD0, 27 PD1, 28 PD2, 29 PD3, 30 PD4, 31 PD5, 32 PD6, 33 PD7, 34 GND, 35 VCC, 36 PE0, 37 PE1, 38 PE2, 39 PE3, 40 PE4, 41 PE5, 42 PE6, 43 PE7, 44 GND, 45 VCC, 46 PF0, 47 PF1, 48 PF2, 49 PF3, 50 PF4, 51 PF5, 52 GND, 53 VCC, 54 PF6, 55 PF7, 56 PDI_DATA, 57 RESET/PDI_CLK, 58 PR0, 59 PR1, 60 GND, 61 AVCC, 62 PA0, 63 PA1, 64 PA2

## xmega256a3b
designator *
footprint QFN127P600-8N
pins: 1 PA3, 2 PA4, 3 PA5, 4 PA6, 5 PA7, 6 PB0, 7 PB1, 8 PB2, 9 PB3, 10 PB4, 11 PB5, 12 PB6, 13 PB7, 14 GND, 15 AVCC, 16 PC0, 17 PC1, 18 PC2, 19 PC3, 20 PC4, 21 PC5, 22 PC6, 23 PC7, 24 GND, 25 VCC, 26 PD0, 27 PD1, 28 PD2, 29 PD3, 30 PD4, 31 PD5, 32 PD6, 33 PD7, 34 GND, 35 VCC, 36 PE0, 37 PE1, 38 PE2, 39 PE3, 40 PE4, 41 PE5, 42 TOSC2, 43 TOSC1, 44 GND, 45 VCC, 46 PF0, 47 PF1, 48 PF2, 49 PF3, 50 PF4, 51 VBAT, 52 GND, 53 VCC, 54 PF6, 55 PF7, 56 PDI_DATA, 57 RESET/PDI_CLK, 58 PR0, 59 PR1, 60 GND, 61 AVCC, 62 PA0, 63 PA1, 64 PA2

## ZXCT1009
designator *
footprint SO-G3/C2.25 (SOT-23; 3 Leads; Body 3.0 x 2.5 mm, inc. leads (LxW max))
pins: 1 Load, 2 Vin, 3 Iout

## ZXMC3AM832
designator *
footprint MLP832
pins: 1, 2, 3, 4, 5, 6, 7, 8, F1, F2
text: PFET; NFET

## ZXMN2AM832
designator *
footprint MLP832
pins: 1, 2, 3, 4, 5, 6, 7, 8, F1, F2

## ZXTD1M832
designator T1
footprint MLP832
pins: 1, 2, 3, 4, 5, 6, 7, 8, F1, F2

## ZXTD09N50DE6TA
designator *
footprint SO-G6/X.5 (SOT-457/SC-74; 6 Leads; Body 3.1 x 2.6 mm, inc. leads (LxW max))
pins: 1 C1, 2 E1, 3 C2, 4 B2, 5 E2, 6 B1

## zxtd4591e6
designator *
footprint SO-G6/X.5 (SOT-457/SC-74; 6 Leads; Body 3.1 x 2.6 mm, inc. leads (LxW max))
pins: 1 C1, 2 B1, 3 C2, 4 E2, 5 B2, 6 E1